# Altium footprint library Connectors.PcbLib: 34 footprints (part 2 of 3)
Each footprint in its own frame and in the unit in brackets; x right, y up, seen from the top. Pads: shape width x height; smd on the part's side, far side on the other; paste and mask are expansions set on the pad; w line width, h text height; cw(c..) or ccw(c..) is an arc to the next point about the centre after c.
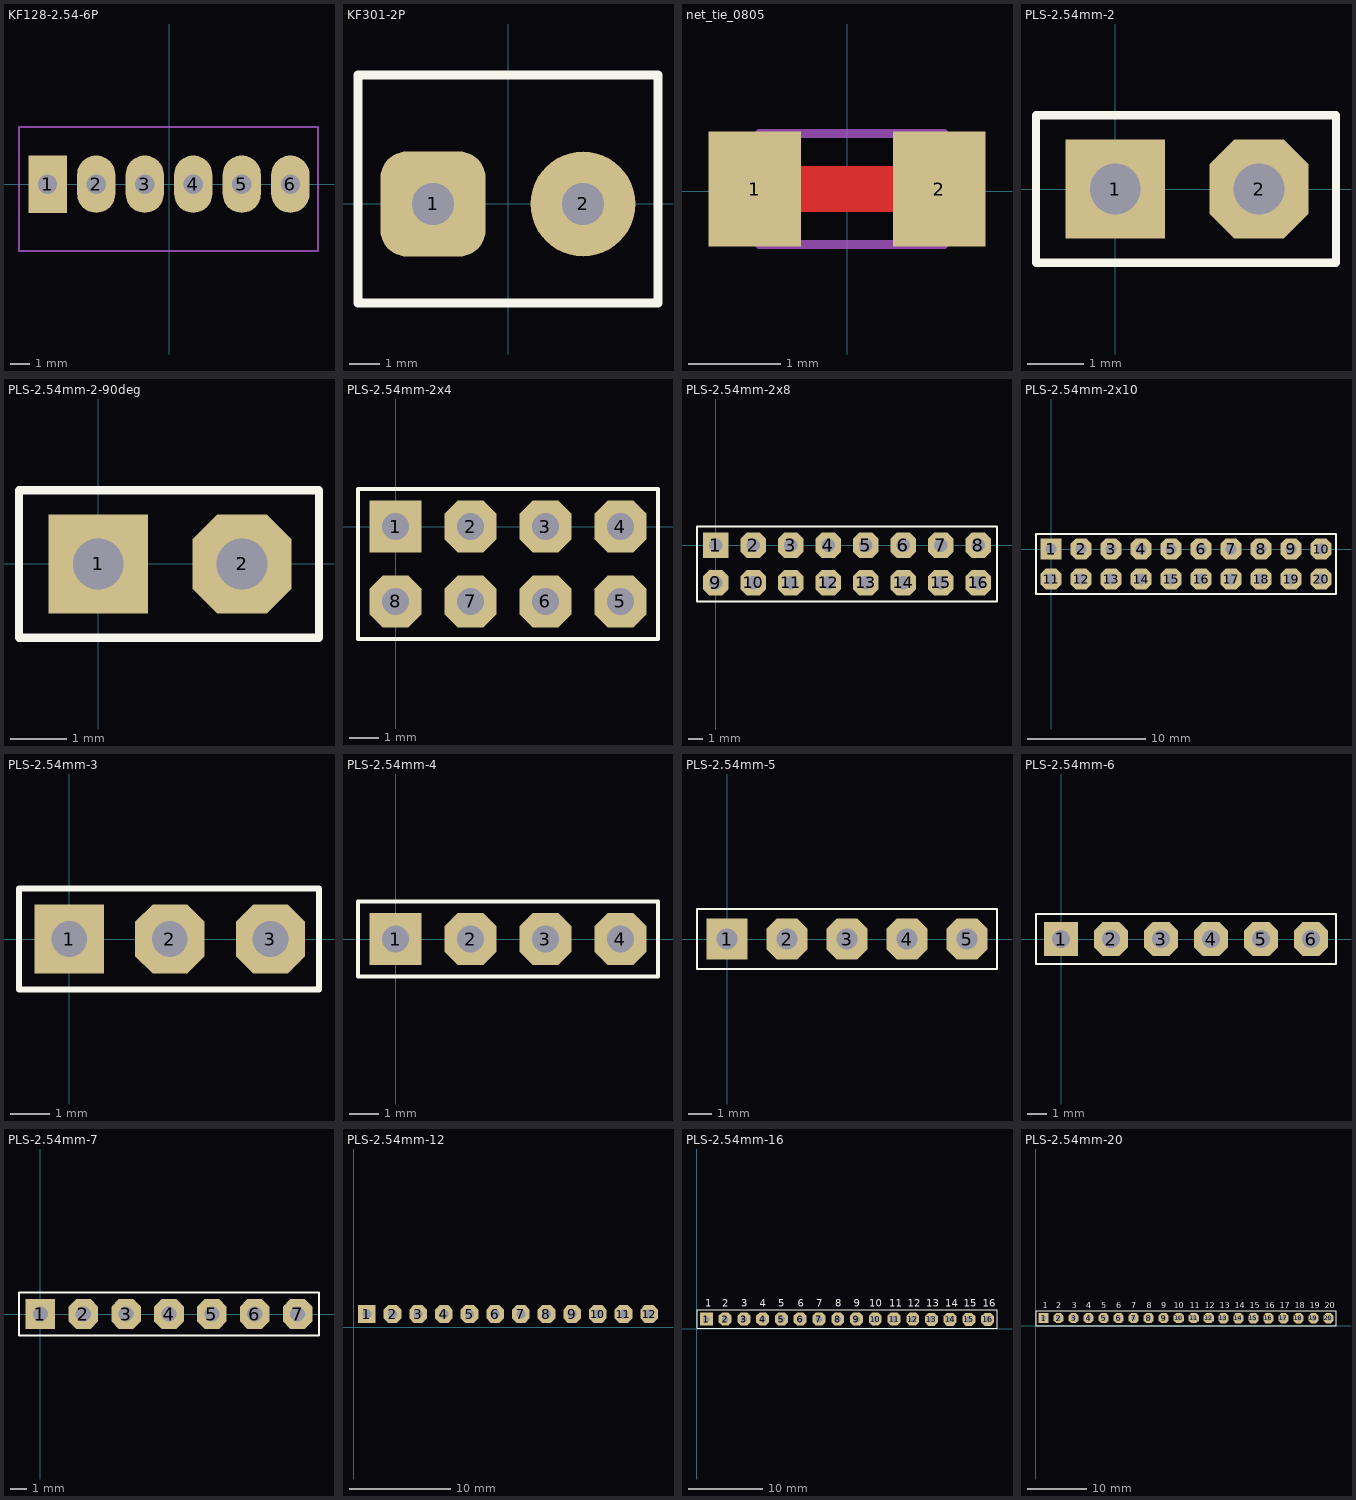
[diagram p1: the footprints below, top view; thin cyan lines are the x and y axes]

## KF128-2.54-6P [mm]
pads (6):
  rect 2x3 hole 1: 1(-6.35,0)
  oval 2x3 hole 1: 2(-3.81,0) 3(-1.27,0) 4(1.27,0) 5(3.81,0) 6(6.35,0)
Mechanical 13:
  lines w0.1: -7.84,-3.5 7.8,-3.5 7.8,3 -7.84,3 -7.84,-3.5
  text "Top" at -0.84,-2.7 h0.6
3D body "KF128-2.54-6P.step": height 8.5, standoff -3.75, extent -7.82,-3.5 7.82,3

## KF301-2P [mm]
pads (2):
  rrect50% 3.5x3.5 hole 1.4: 1(-2.5,0)
  round 3.5 hole 1.4: 2(2.5,0)
Top Overlay:
  lines w0.3: -5,-3.3 5,-3.3 5,4.3 -5,4.3 -5,-3.3
Mechanical 1:
  text "TOP" at -1.1,-2.8 h0.8
3D body "KF301-5-2P.STEP": height 10, standoff -4.5, extent -5.6,-3.25 5,4.25

## net_tie_0805 [mm]
pads (2):
  rect 1x1.25 smd: 1(-1,0.025) 2(1,0.025)
Top Layer:
  lines w0.5: -1,0.025 1,0.025
Mechanical 1:
  lines w0.1: -0.949,-0.575 -0.949,0.625 1.05,0.625 1.05,-0.575 -0.949,-0.575

## PLS-2.54mm-2 [mm]
pads (2):
  rect 1.75x1.75 hole 0.9: 1(0,0)
  oct 1.75x1.75 hole 0.9: 2(2.54,0)
Top Overlay:
  lines w0.15: -1.4,-1.3 3.9,-1.3 3.9,1.3 -1.4,1.3 -1.4,-1.3
3D body "PLS-1.step": height 8.6, standoff -3, extent 1.27,-1.27 3.81,1.27
3D body "PLS-1.step": height 8.6, standoff -3, extent -1.27,-1.27 1.27,1.27

## PLS-2.54mm-2-90deg [mm]
pads (2):
  rect 1.75x1.75 hole 0.9: 1(0,0)
  oct 1.75x1.75 hole 0.9: 2(2.54,0)
Top Overlay:
  lines w0.15: -1.4,-1.3 -1.4,1.3 3.9,1.3 3.9,-1.3 -1.4,-1.3
3D body "Pin_header_2.54_90deg_x2.step": height 4.35, standoff -2.95, extent -1.27,-1.27 3.81,7.18

## PLS-2.54mm-2x4 [mm]
pads (8):
  rect 1.75x1.75 hole 0.9: 1(0,0)
  oct 1.75x1.75 hole 0.9: 2(2.54,0) 3(5.08,0) 4(7.62,0) 5(7.62,-2.54) 6(5.08,-2.54) 7(2.54,-2.54) 8(0,-2.54)
Top Overlay:
  lines w0.15: -1.27,-3.81 -1.27,1.27 8.89,1.27 8.89,-3.81 -1.27,-3.81

## PLS-2.54mm-2x8 [mm]
pads (16):
  rect 1.75x1.75 hole 0.9: 1(0,0)
  oct 1.75x1.75 hole 0.9: 2(2.54,0) 3(5.08,0) 4(7.62,0) 5(10.16,0) 6(12.7,0) 7(15.24,0) 8(17.78,0) 9(0,-2.54) 10(2.54,-2.54) 11(5.08,-2.54) 12(7.62,-2.54) 13(10.16,-2.54) 14(12.7,-2.54) 15(15.24,-2.54) 16(17.78,-2.54)
Top Overlay:
  lines w0.15: -1.27,-3.81 19.05,-3.81 19.05,1.27 -1.27,1.27 -1.27,-3.81

## PLS-2.54mm-2x10 [mm]
pads (20):
  rect 1.75x1.75 hole 0.9: 1(0,0)
  oct 1.75x1.75 hole 0.9: 2(2.54,0) 3(5.08,0) 4(7.62,0) 5(10.16,0) 6(12.7,0) 7(15.24,0) 8(17.78,0) 9(20.32,0) 10(22.86,0) 11(0,-2.54) 12(2.54,-2.54) 13(5.08,-2.54) 14(7.62,-2.54) 15(10.16,-2.54) 16(12.7,-2.54) 17(15.24,-2.54) 18(17.78,-2.54) 19(20.32,-2.54) 20(22.86,-2.54)
Top Overlay:
  lines w0.15: 19.05,-3.81 24.13,-3.81 24.13,1.27 19.05,1.27 ; 22.86,-3.81 -1.27,-3.81 -1.27,1.27 22.86,1.27

## PLS-2.54mm-3 [mm]
pads (3):
  rect 1.75x1.75 hole 0.9: 1(0,0)
  oct 1.75x1.75 hole 0.9: 2(2.54,0) 3(5.08,0)
Top Overlay:
  lines w0.15: -1.27,-1.27 6.306,-1.27 6.306,-0.455 6.306,0.455 6.306,1.27 -1.27,1.27 -1.27,-1.27

## PLS-2.54mm-4 [mm]
pads (4):
  rect 1.75x1.75 hole 0.9: 1(0,0)
  oct 1.75x1.75 hole 0.9: 2(2.54,0) 3(5.08,0) 4(7.62,0)
Top Overlay:
  lines w0.15: -1.27,-1.27 -1.27,1.27 8.89,1.27 8.89,-1.27 -1.27,-1.27
3D body "PLS-1.step": height 8.6, standoff -3, extent -1.27,-1.27 1.27,1.27
3D body "PLS-1.step": height 8.6, standoff -3, extent 1.27,-1.27 3.81,1.27
3D body "PLS-1.step": height 8.6, standoff -3, extent 3.81,-1.27 6.35,1.27
3D body "PLS-1.step": height 8.6, standoff -3, extent 6.35,-1.27 8.89,1.27

## PLS-2.54mm-5 [mm]
pads (5):
  rect 1.75x1.75 hole 0.9: 1(0,0)
  oct 1.75x1.75 hole 0.9: 2(2.54,0) 3(5.08,0) 4(7.62,0) 5(10.16,0)
Top Overlay:
  lines w0.1: -1.27,-1.27 -1.27,1.27 11.43,1.27 11.43,-1.27 -1.27,-1.27
3D body "PLS-1.step": height 8.6, standoff -3, extent 8.89,-1.27 11.43,1.27
3D body "PLS-1.step": height 8.6, standoff -3, extent 6.35,-1.27 8.89,1.27
3D body "PLS-1.step": height 8.6, standoff -3, extent 3.81,-1.27 6.35,1.27
3D body "PLS-1.step": height 8.6, standoff -3, extent 1.27,-1.27 3.81,1.27
3D body "PLS-1.step": height 8.6, standoff -3, extent -1.27,-1.27 1.27,1.27

## PLS-2.54mm-6 [mm]
pads (6):
  rect 1.75x1.75 hole 0.9: 1(0,0)
  oct 1.75x1.75 hole 0.9: 2(2.54,0) 3(5.08,0) 4(7.62,0) 5(10.16,0) 6(12.7,0)
Top Overlay:
  lines w0.1: -1.27,-1.27 13.97,-1.27 13.97,1.27 -1.27,1.27 -1.27,-1.27

## PLS-2.54mm-7 [mm]
pads (7):
  rect 1.75x1.75 hole 0.9: 1(0,0)
  oct 1.75x1.75 hole 0.9: 2(2.54,0) 3(5.08,0) 4(7.62,0) 5(10.16,0) 6(12.7,0) 7(15.24,0)
Top Overlay:
  lines w0.1: -1.27,-1.27 16.51,-1.27 16.51,1.27 -1.27,1.27 -1.27,-1.27

## PLS-2.54mm-12 [mm]
pads (12):
  rect 1.75x1.75 hole 0.9: 1(1.3,1.3)
  oct 1.75x1.75 hole 0.9: 2(3.84,1.3) 3(6.38,1.3) 4(8.92,1.3) 5(11.46,1.3) 6(14,1.3) 7(16.54,1.3) 8(19.08,1.3) 9(21.62,1.3) 10(24.16,1.3) 11(26.7,1.3) 12(29.24,1.3)

## PLS-2.54mm-16 [mm]
pads (16):
  rect 1.75x1.75 hole 0.9: 1(1.3,1.3)
  oct 1.75x1.75 hole 0.9: 2(3.84,1.3) 3(6.38,1.3) 4(8.92,1.3) 5(11.46,1.3) 6(14,1.3) 7(16.54,1.3) 8(19.08,1.3) 9(21.62,1.3) 10(24.16,1.3) 11(26.7,1.3) 12(29.24,1.3) 13(31.75,1.27) 14(34.29,1.27) 15(36.83,1.27) 16(39.37,1.27)
Top Overlay:
  lines w0.1: 0.03,0.03 40.64,0.03 40.64,2.57 0.03,2.57 0.03,0.03
  text "16" at 38.71,2.95 h1
  text "15" at 36.17,2.95 h1
  text "14" at 33.63,2.95 h1
  text "13" at 31.09,2.95 h1
  text "12" at 28.55,2.95 h1
  text "11" at 26.05,2.95 h1
  text "10" at 23.35,2.95 h1
  text "9" at 21.25,2.95 h1
  text "8" at 18.75,2.95 h1
  text "7" at 16.15,2.95 h1
  text "6" at 13.65,2.95 h1
  text "5" at 11.05,2.95 h1
  text "4" at 8.55,2.95 h1
  text "3" at 6.05,2.95 h1
  text "2" at 3.45,2.95 h1
  text "1" at 1.15,2.95 h1

## PLS-2.54mm-20 [mm]
pads (20):
  rect 1.75x1.75 hole 0.9: 1(1.3,1.3)
  oct 1.75x1.75 hole 0.9: 2(3.84,1.3) 3(6.38,1.3) 4(8.92,1.3) 5(11.46,1.3) 6(14,1.3) 7(16.54,1.3) 8(19.08,1.3) 9(21.62,1.3) 10(24.16,1.3) 11(26.7,1.3) 12(29.24,1.3) 13(31.75,1.27) 14(34.29,1.27) 15(36.83,1.27) 16(39.37,1.27) 17(41.91,1.27) 18(44.45,1.27) 19(46.99,1.27) 20(49.53,1.27)
Top Overlay:
  lines w0.1: 0.03,0.03 0.03,2.57 50.8,2.57 50.8,0.03 0.03,0.03
  text "1" at 1.15,2.95 h1
  text "2" at 3.45,2.95 h1
  text "3" at 6.05,2.95 h1
  text "4" at 8.55,2.95 h1
  text "5" at 11.05,2.95 h1
  text "6" at 13.65,2.95 h1
  text "7" at 16.15,2.95 h1
  text "8" at 18.75,2.95 h1
  text "9" at 21.25,2.95 h1
  text "10" at 23.35,2.95 h1
  text "11" at 26.05,2.95 h1
  text "12" at 28.55,2.95 h1
  text "13" at 31.09,2.95 h1
  text "14" at 33.63,2.95 h1
  text "15" at 36.17,2.95 h1
  text "16" at 38.71,2.95 h1
  text "17" at 41.25,2.95 h1
  text "18" at 43.79,2.95 h1
  text "19" at 46.33,2.95 h1
  text "20" at 48.87,2.95 h1